# EAGLE library part SWITCH,BUTTON,ROUND,6MM (library StdBxLibrary_BETA_)
BETA! SB0020 - Switch, Push Button, DPDT, 6mm Round Cap Available in Momentary and Push-on / Push-Off Cap is hard to find
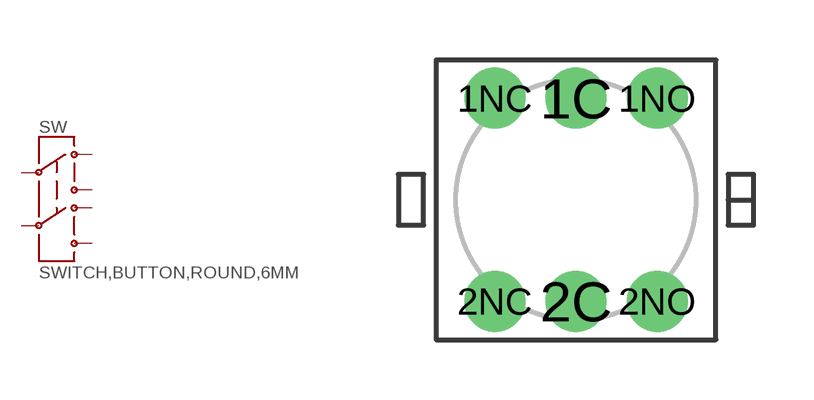
[diagram p7: symbol with the pads of 7X7_BUTTON_ROUND; footprint 7X7_BUTTON_ROUND]

Designator prefix SW

## SWITCH,BUTTON,ROUND,6MM  [7X7_BUTTON_ROUND]
1C  1C
1NC  1NC
1NO  1NO
2C  2C
2NC  2NC
2NO  2NO

## Footprint 7X7_BUTTON_ROUND (pad centres in mm)
drill 0.8 pad 1.524: 1C 0,2.54; 1NC -2.032,2.54; 1NO 2.032,2.54; 2C 0,-2.54; 2NC -2.032,-2.54; 2NO 2.032,-2.54